# Altium footprint library 2300LL102VRC.PcbLib: 1 footprints
Each footprint in its own frame and in the unit in brackets; x right, y up, seen from the top. Pads: shape width x height; smd on the part's side, far side on the other; paste and mask are expansions set on the pad; w line width, h text height; cw(c..) or ccw(c..) is an arc to the next point about the centre after c.
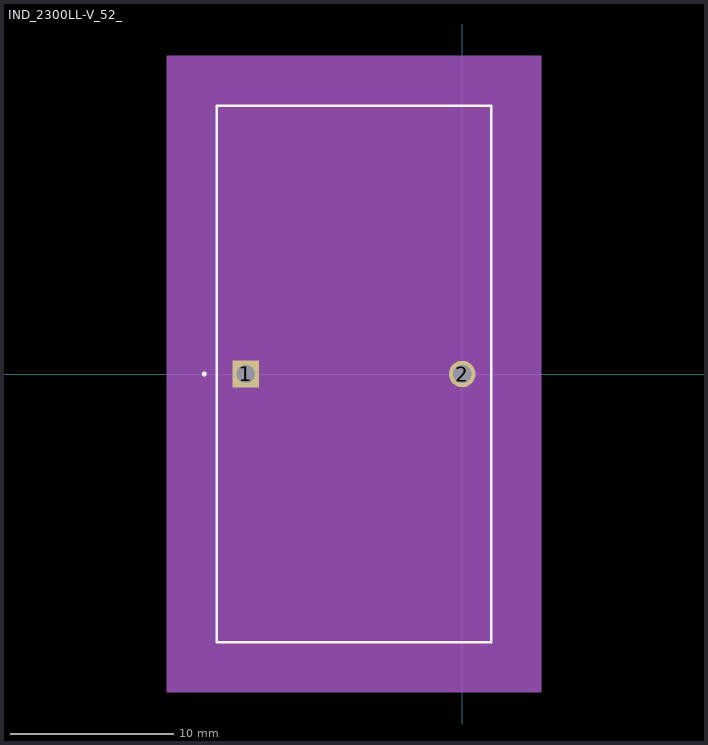
[diagram p0: the footprint, top view; thin cyan lines are the x and y axes]

## IND_2300LL-V_52_ [mil]
pads (2):
  rect 64x64 hole 44: 1(-520,0)
  round 64 hole 44: 2(0,0)
Top Overlay:
  circle w6: c-620,0 r3
  lines w6: -590,-645 70,-645 70,645 -590,645 -590,-645
Mechanical 5:
  region: 190,-765 -710,-765 -710,765 190,765
Mechanical 7:
  lines w1: -585,0 -585,390 ; -520,-390 -520,0 ; -260,-640 130,-640 ; -260,640 130,640 ; 0,-390 0,0 ; 65,0 65,390 ; -585,375 65,375 ; -585,375 -575,380 -575,370 -585,375 ; -520,-375 0,-375 ; -520,-375 -510,-370 -510,-380 -520,-375 ; 0,-375 -10,-370 -10,-380 0,-375 ; 65,375 55,380 55,370 65,375 ; 115,-640 115,640 ; 115,-640 110,-630 120,-630 115,-640 ; 115,640 110,630 120,630 115,640
  text "Pin 1 Pad Style: SX64Y64D44P" at -610,-840 h50
  text "Default Pad Style: EX64Y64D44P" at -635,-915 h50
  text "Alt 1 Pad Style: OX60Y90D30P" at -610,-990 h50
  text "Alt 2 Pad Style: OX90Y60D30P" at -610,-1065 h50
  text "0.52in/13.208mm" at -353.75,-420 h25
  text "0.65in/16.51mm" at -347.5,395 h25
  text "1.28in/32.512mm" at 135,-12.5 h25
Mechanical 13:
  circle w0: c-570,0 r3
  lines w1: -585,-640 65,-640 65,640 -585,640 -585,-640
Mechanical 15:
  region: 75,-650 -595,-650 -595,650 75,650
  lines w6: -595,-650 -595,650 75,650 75,-650 -595,-650
3D body: height 10, standoff 0, extent 0,0 10,10